# EAGLE library part DUOV1.0 (library Duo_1.0)
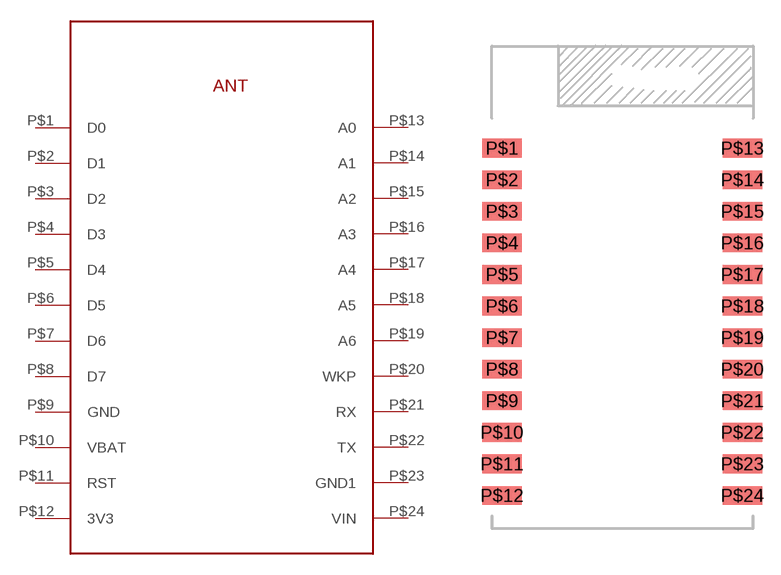
[diagram p0: symbol with the pads of DUOV1.0; footprint DUOV1.0]

Designator prefix -

## DUOV1.0  [DUOV1.0]
P$1  D0
P$2  D1
P$3  D2
P$4  D3
P$5  D4
P$6  D5
P$7  D6
P$8  D7
P$9  GND
P$10  VBAT
P$11  RST
P$12  3V3
P$13  A0
P$14  A1
P$15  A2
P$16  A3
P$17  A4
P$18  A5
P$19  A6
P$20  WKP
P$21  RX
P$22  TX
P$23  GND1
P$24  VIN

## Footprint DUOV1.0 (pad centres in mm)
smd 3.2 x 1.5: P$1 0.5,30.59; P$2 0.5,28.05; P$3 0.5,25.51; P$4 0.5,22.97; P$5 0.5,20.43; P$6 0.5,17.89; P$7 0.5,15.35; P$8 0.5,12.81; P$9 0.5,10.27; P$10 0.5,7.73; P$11 0.5,5.19; P$12 0.5,2.65; P$13 19.82,30.59; P$14 19.82,28.05; P$15 19.82,25.51; P$16 19.82,22.97; P$17 19.82,20.43; P$18 19.82,17.89; P$19 19.82,15.35; P$20 19.82,12.81; P$21 19.82,10.27; P$22 19.82,7.73; P$23 19.82,5.19; P$24 19.82,2.65